# Altium footprint library SkillDevPCBLib.PcbLib: 4 footprints
Each footprint in its own frame and in the unit in brackets; x right, y up, seen from the top. Pads: shape width x height; smd on the part's side, far side on the other; paste and mask are expansions set on the pad; w line width, h text height; cw(c..) or ccw(c..) is an arc to the next point about the centre after c.
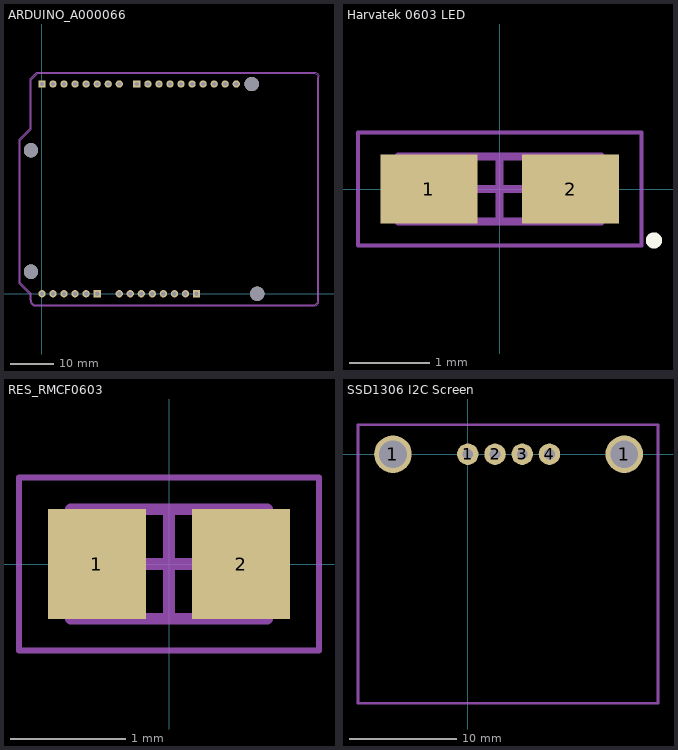
[diagram p0: the footprints below, top view; thin cyan lines are the x and y axes]

## ARDUINO_A000066 [mil]
pads (36):
  round 66 hole 40: 3V3(1100,0) 5V(1000,0) A1(400,0) A2(300,0) A3(200,0) A4(100,0) A5(0,0) AREF(1560,1900) D1(100,1900) D2(200,1900) D3(300,1900) D4(400,1900) D5(500,1900) D6(600,1900) D7(700,1900) D9(960,1900) D10(1060,1900) D11(1160,1900) D12(1260,1900) D13(1360,1900) GND_1(800,0) GND_2(900,0) GND_3(1460,1900) IOREF(1300,0) RST(1200,0) SCL(1760,1900) SDA(1660,1900) VIN(700,0)
  rect 66x66 / inner round 66 / far side rect 66x66 hole 40: A0(500,0) D0(0,1900) D8(860,1900) P1(1400,0)
  round 129.92 hole 129.92 unplated: ""(-100,200) ""(-100,1300) ""(1900,1900) ""(1950,0)
Bottom Overlay:
  lines w5: -198.21,99.87 -198.21,1388.59 -98.25,1488.55 -98.25,1938.39 -38.27,1998.37 2460.85,1998.37 2470.84,1996.7 2480.01,1992.54 2488.34,1986.71 2495,1978.38 2498.33,1969.21 2500,1958.39 2500,-60.9 2498.33,-70.9 2495,-80.06 2488.34,-88.39 2480.01,-95.06 2470.84,-98.39 2460.85,-100.05 -59.09,-100.05 -69.09,-98.39 -78.26,-95.06 -86.59,-88.39 -93.25,-80.06 -96.58,-70.9 -98.25,-60.9 -98.25,-0.09 -198.21,99.87
Mechanical 13:
  lines w5: -198.21,99.87 -98.25,-0.09 -98.25,-60.9 -96.58,-70.9 -93.25,-80.06 -86.59,-88.39 -78.26,-95.06 -69.09,-98.39 -59.09,-100.05 2460.85,-100.05 2470.84,-98.39 2480.01,-95.06 2488.34,-88.39 2495,-80.06 2498.33,-70.9 2500,-60.9 2500,1958.39 2498.33,1969.21 2495,1978.38 2488.34,1986.71 2480.01,1992.54 2470.84,1996.7 2460.85,1998.37 -38.27,1998.37 -98.25,1938.39 -98.25,1488.55 -198.21,1388.59 -198.21,99.87
Mechanical 15:
  lines w1.97: -108.25,-61.08 ccw(c-56.81,-58.38) -58.61,-109.86 ; -108.09,-60.9 -108.09,-9.93 -208.06,90.03 -208.06,1398.43 -108.09,1498.39 -108.09,1948.23 -48.11,2008.21 2470.69,2008.21 2480.69,2006.55 2489.85,2002.38 2498.18,1996.55 2504.84,1988.22 2508.18,1979.06 2509.84,1968.23 2509.84,-60.63 2509.84,-60.9 ; -59.09,-109.9 2470.69,-109.9 ; 2470.6,-109.82 ccw(c2463.3,-63.75) 2509.83,-60.5

## Harvatek 0603 LED [mm]
height 0.4
pads (2):
  rect 1.2x0.85 smd: 1(-0.875,0) 2(0.875,0)
Top Overlay:
  circle w0.1: c1.905,-0.635 r0.05
Mechanical 13:
  lines w0.1: -1.25,-0.4 -1.25,0.4 1.25,0.4 1.25,-0.4 -1.25,-0.4
Mechanical 15:
  lines w0.05: -1.75,-0.7 -1.75,0.7 1.75,0.7 1.75,-0.7 -1.75,-0.7
  lines w0.1: -0.4,0 0.4,0 ; 0,-0.4 0,0.4
3D body "Harvatek 0603 LED.step": height 0.4, standoff 0, extent -1.25,-0.4 1.25,0.4

## RES_RMCF0603 [mm] "Footprint for RMCF0603FT10K0 Resistor"
height 0.6
pads (2):
  rect 0.85x0.95 smd: 1(-0.625,0) 2(0.625,0)
Mechanical 13:
  lines w0.1: -0.85,-0.475 0.85,-0.475 0.85,0.475 -0.85,0.475 -0.85,-0.475
Mechanical 15:
  lines w0.05: -1.3,-0.75 1.3,-0.75 1.3,0.75 -1.3,0.75 -1.3,-0.75
  lines w0.1: -0.475,0 0.475,0 ; 0,-0.475 0,0.475
3D body: height 0.6, standoff 0, extent 0.55,-0.475 0.85,0.475
3D body: height 0.6, standoff 0, extent -0.85,-0.475 -0.55,0.475
3D body: height 0.6, standoff 0, extent -0.55,-0.475 0.55,0.475

## SSD1306 I2C Screen [mm] "Footprint for SSD1306 I2C screen on seperate board"
pads (6):
  round 3.5 hole 2.6: 1(-6.985,0) 1(14.605,0)
  round 2 hole 1: 1(0,0) 2(2.54,0) 3(5.08,0) 4(7.62,0)
Mechanical 1:
  lines w0.254: -10.25,-23.25 17.75,-23.25 17.75,2.75 -10.25,2.75 -10.25,-23.25